# EAGLE library part HM-11 (library HM-11)
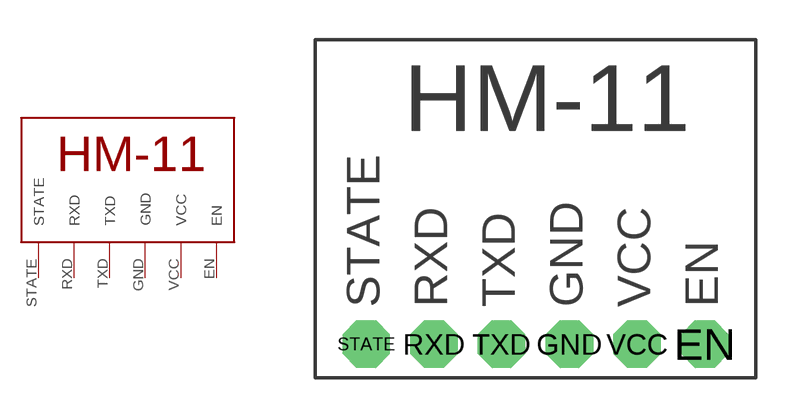
[diagram p0: symbol with the pads of HM-11; footprint HM-11]

Designator prefix -

## HM-11  [HM-11]
EN  EN
GND  GND
RXD  RXD
STATE  STATE
TXD  TXD
VCC  VCC

## Footprint HM-11 (pad centres in mm)
drill 1.016 pad 1.778 octagon: EN 14.605,1.27; GND 9.525,1.27; RXD 4.445,1.27; STATE 1.905,1.27; TXD 6.985,1.27; VCC 12.065,1.27